# EAGLE library part NCV7356 (library ON Semiconductor)
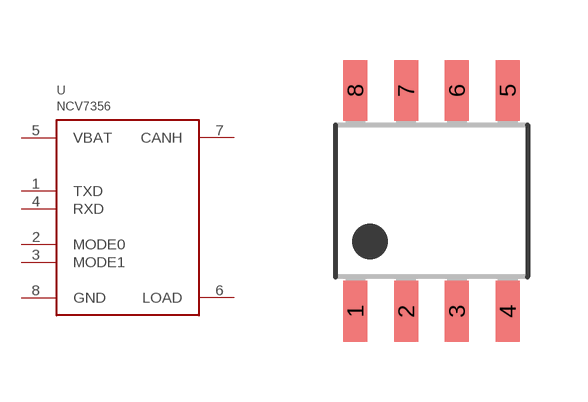
[diagram p2: symbol with the pads of SOIC8; footprint SOIC8]

Designator prefix U

## NCV7356D1  [SOIC8]
1  TXD
2  MODE0
3  MODE1
4  RXD
5  VBAT  pwr
6  LOAD
7  CANH
8  GND

## Footprint SOIC8 (pad centres in mm)
smd 0.6 x 1.52: 1 -1.905,-2.76; 2 -0.635,-2.76; 3 0.635,-2.76; 4 1.905,-2.76; 5 1.905,2.76; 6 0.635,2.76; 7 -0.635,2.76; 8 -1.905,2.76